# EAGLE library part SPI2UART_HEADERS (library Aeroponics Control)
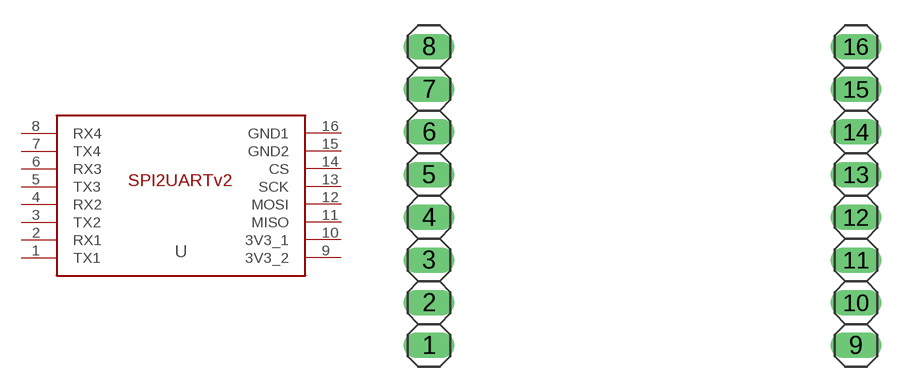
[diagram p3: symbol with the pads of SPI2UARTV2; footprint SPI2UARTV2]

Designator prefix -

## SPI2UART_HEADERS  [SPI2UARTV2]
1  TX1  out
2  RX1  in
3  TX2  out
4  RX2  in
5  TX3  out
6  RX3  in
7  TX4  out
8  RX4  in
9  3V3_2  pwr
10  3V3_1  pwr
11  MISO  out
12  MOSI  in
13  SCK  in
14  CS  in
15  GND2  pwr
16  GND1  pwr

## Footprint SPI2UARTV2 (pad centres in mm)
drill 1.016 long: 1 -12.7,-8.89; 2 -12.7,-6.35; 3 -12.7,-3.81; 4 -12.7,-1.27; 5 -12.7,1.27; 6 -12.7,3.81; 7 -12.7,6.35; 8 -12.7,8.89; 9 12.7,-8.89; 10 12.7,-6.35; 11 12.7,-3.81; 12 12.7,-1.27; 13 12.7,1.27; 14 12.7,3.81; 15 12.7,6.35; 16 12.7,8.89